# Altium schematic symbol library ATX-11-F-32.000MHZ-F05-T.SchLib: 1 symbol
Pins are listed as number, name and electrical type; pins without a type are passive.

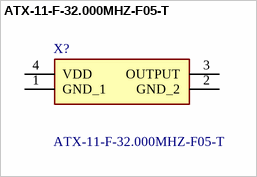
[diagram p0: symbol ATX-11-F-32.000MHZ-F05-T]

## ATX-11-F-32.000MHZ-F05-T
designator X?
32 MHz TCXO Clipped Sine Wave Oscillator 1.68V ~ 3.63V - 4-SMD, No Lead; Manufacturer_Name: ABRACON; Geometry.Height: 1.2mm; Mouser Part Number: 815-ATX11F32000MF05T; Mouser Price/Stock: https://www.mouser.co.uk/ProductDetail/ABRACON/ATX-11-F-32.000MHz-F05-T?qs=iLbezkQI%252BsgUO3myvlQBdA%3D%3D; Manufacturer_Part_Number: ATX-11-F-32.000MHZ-F05-T; Datasheet Link: https://abracon.com/datasheets/ATX-11.pdf
footprint ATX11F32000MHZF05T
pins: 1 GND_1, 2 GND_2, 3 OUTPUT, 4 VDD